# Altium schematic symbol library DCDC.SCHLIB: 142 symbols (part 3 of 6)
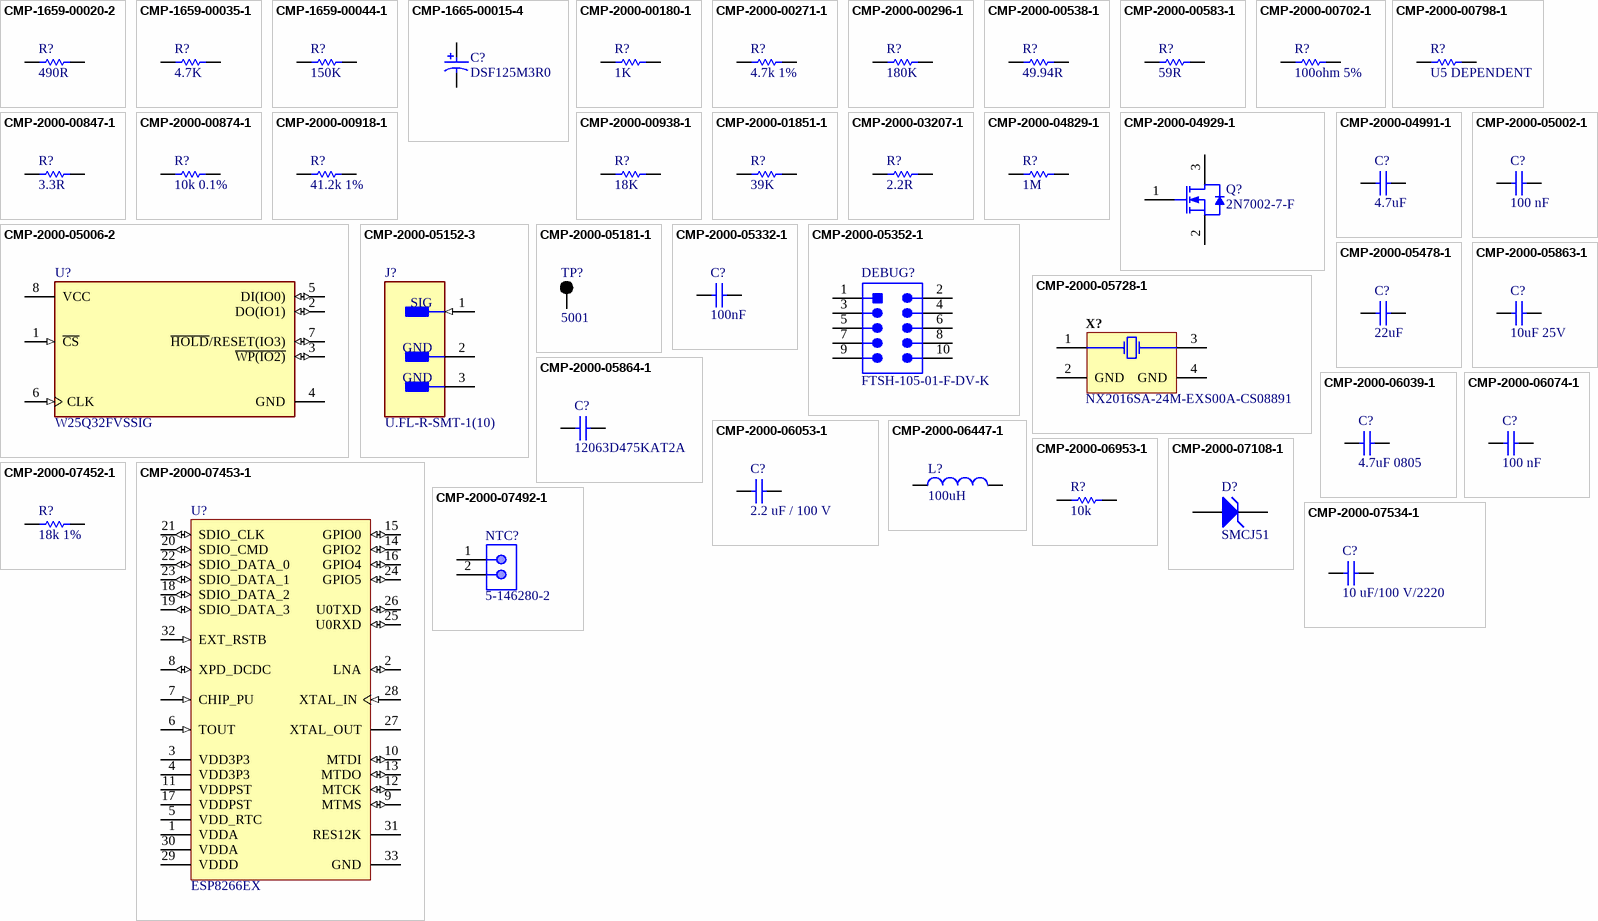
[diagram p5: symbols CMP-1659-00020-2 to CMP-2000-07534-1]

## CMP-2000-04991-1
designator C?, comment Capacitance: 4.7uF  (hidden comment: C1206C105K3RACTU)
Chip Capacitor, 1 uF, +/- 10%, 25 V, -55 to 125 degC, 1206 (3216 Metric), RoHS, Tape and Reel; Manufacturer: Kemet; Temperature Coefficient / Code: +/-15%; Dielectric: X7R; Voltage Rating DC: 25V; Capacitance - nF: 1000nF; Class: Class1; Case Length: 3.2mm; Type: SMDMLCCX7R6.3-250VDCCommericalGrade; Case Width: 1.6mm; Product: GeneralTypeMLCCs; Datasheet URL: https://ciiva.com/datasheet-click-18194173?src=ciiva&sig=6daff8c4; Operating Temperature Range: -55Cto+125C; Series: C1206C; RoHS: Details; Product Category: MultilayerCeramicCapacitorsMLCC-SMD/SMT; Manufacturer URL: http://www.kemet.com/; Minimum Operating Temperature: -55C; Dimensions: 1.6mmWx3.2mmLx1.6mmH; Termination Style: SMD/SMT; Brand: Kemet; Packaging: Reel; Package / Case: 1206(3216metric); Case Code - mm: 3216; Datasheet Version: Jul-14; Factory Pack Quantity: 2000; Package Description: 2-Pin Surface Mount Device, Body 3.2 x 1.6 mm; Tolerance: 10%; Package Reference: 1206; Case Height: 1.6mm; Case Code - in: 1206; Maximum Operating Temperature: +125C; Voltage Rating: 25V
footprint CAPC3216X180X50ML20T25 (Chip Capacitor, 2-Leads, Body 3.40x1.80mm, IPC Low Density)
footprint CAPC3216X180X50NL20T25 (Chip Capacitor, 2-Leads, Body 3.20x1.60mm, IPC Medium Density)
footprint CAPC3216X180X50LL20T25 (Chip Capacitor, 2-Leads, Body 3.20x1.60mm, IPC High Density)
pins: 1, 2

## CMP-2000-05002-1
designator C?, comment 100 nF
Ceramic Multilayer Capacitor, 100 nF, +/- 10%, 50 V, -55 to 155 degC, 0603 (1608 Metric), RoHS, Tape and Reel; Manufacturer: Yageo; Manufacturer Part Number: CC0603KRX7R7BB104; Online Catalog: CCSeries; Voltage - Rated: 16V; Product Training Modules: MultilayerCeramicCapacitors; Other Names: 311-1088-6; Featured Product: CommodityMultilayerCeramicCapacitors–CCSeries; Capacitance: 0.1µF; Temperature Coefficient: X7R; Insulation Resistance: 100GR; Height - Seated (Max): -; Operating Temperature: -55degC~125degC; Package / Case: 0603(1608Metric); Datasheet URL: https://datasheet.ciiva.com/11786/0900766b80d84f1d-11786077.pdf; Package Description: 2-Pin Surface Mount Device, Body 1.6 x 0.8 mm; Family: CeramicCapacitors; Packaging: Digi-Reel; Size / Dimension: 0.063"Lx0.031"W(1.60mmx0.80mm); Thickness (Max): 0.035"(0.90mm); Series: CC; Lead Spacing: -; Features: -; Tolerance: ±10%; Lead Style: -; Ratings: -; Manufacturer URL: http://www.yageo.com/; Package Reference: 603; Standard Package: 1; Category: Capacitors; Mounting Type: SurfaceMount,MLCC; Applications: GeneralPurpose; Datasheet Version: Rev. 2, 05/2009; Supplier 1: Digi-Key; Supplier Part Number 1: 311-1088-1-ND; Stock 1: 17413267; Pricing 1: 1=0,10000, 10=0,04800, 100=0,02130, 500=0,01522, 1000=0,01196 (USD); RoHS: Yes; Mount: Surface Mount; Case/Package: 0603; Number of Pins: 2; Case Code (Metric): 1608; Case Code (Imperial): 0603; Material: Ceramic; Min Operating Temperature: -55°C; Max Operating Temperature: 125°C; Voltage Rating: 16V; Package Quantity: 1; Dielectric: X7R; Termination: SMD/SMT; Voltage Rating (DC): 16V; Voltage: 16V; Composition: Ceramic; Length: 1.6mm; Height: 0.8mm; Width: 0.031inch; Thickness: 0.035inch; Depth: 0.8mm; Radiation Hardening: No; REACH SVHC: No SVHC; Lead Free: Lead Free; Halogen Free: Halogen Free; ComponentLink1URL: https://datasheet.ciiva.com/11786/0900766b80d84f1d-11786077.pdf?src-supplier=RSComponents; ComponentLink1Description: https://datasheet.ciiva.com/11786/0900766b80d84f1d-11786077.pdf?src-supplier=RSComponents; ComponentLink2URL: https://datasheet.ciiva.com/8033/1734573-8033797.pdf?src-supplier=Element14; ComponentLink2Description: https://datasheet.ciiva.com/8033/1734573-8033797.pdf?src-supplier=Element14; ComponentLink3URL: https://datasheet.ciiva.com/144/mlccorderingcode-144182.pdf?src-supplier=Digi-Key; ComponentLink3Description: https://datasheet.ciiva.com/144/mlccorderingcode-144182.pdf?src-supplier=Digi-Key; ComponentLink4URL: https://datasheet.ciiva.com/16625/upy-gphc-x7r-6-3v-to-50v-8-16625526.pdf?src-supplier=Avnet+Europe; ComponentLink4Description: https://datasheet.ciiva.com/16625/upy-gphc-x7r-6-3v-to-50v-8-16625526.pdf?src-supplier=Avnet+Europe; ComponentLink5URL: https://datasheet.ciiva.com/144/mlccorderingcode-144183.pdf?src-supplier=Digi-Key; ComponentLink5Description: https://datasheet.ciiva.com/144/mlccorderingcode-144183.pdf?src-supplier=Digi-Key; ComponentLink6URL: https://datasheet.ciiva.com/8033/70765-8033799.pdf?src-supplier=Element14; ComponentLink6Description: https://datasheet.ciiva.com/8033/70765-8033799.pdf?src-supplier=Element14; ComponentLink7URL: https://datasheet.ciiva.com/144/mlccorderingcode-144184.pdf?src-supplier=Digi-Key; ComponentLink7Description: https://datasheet.ciiva.com/144/mlccorderingcode-144184.pdf?src-supplier=Digi-Key; ComponentLink8URL: https://datasheet.ciiva.com/28450/1489800-28450552.pdf?src-supplier=Element14; ComponentLink8Description: https://datasheet.ciiva.com/28450/1489800-28450552.pdf?src-supplier=Element14; ComponentLink9URL: https://datasheet.ciiva.com/13395/upy-gphc-x7r-6-3v-to-50v-8-13395674.pdf?src-supplier=Mouser; ComponentLink9Description: https://datasheet.ciiva.com/13395/upy-gphc-x7r-6-3v-to-50v-8-13395674.pdf?src-supplier=Mouser; ComponentLink10URL: https://datasheet.ciiva.com/15165/getdatasheetpartid-63554-15165387.pdf?src-supplier=Verical; ComponentLink10Description: https://datasheet.ciiva.com/15165/getdatasheetpartid-63554-15165387.pdf?src-supplier=Verical; ComponentLink11URL: https://datasheet.ciiva.com/46430/1734573-46430156.pdf?src-supplier=Element14; ComponentLink11Description: https://datasheet.ciiva.com/46430/1734573-46430156.pdf?src-supplier=Element14; ComponentLink12URL: https://datasheet.ciiva.com/7978/1489800-7978141.pdf?src-supplier=Element14; ComponentLink12Description: https://datasheet.ciiva.com/7978/1489800-7978141.pdf?src-supplier=Element14; ComponentLink13URL: https://datasheet.ciiva.com/11464/upy-gphc-x7r-6-3v-to-50v-8-11464735.pdf?src-supplier=Avnet; ComponentLink13Description: https://datasheet.ciiva.com/11464/upy-gphc-x7r-6-3v-to-50v-8-11464735.pdf?src-supplier=Avnet
footprint CAPC1608X90X40ML10T20 (Chip Capacitor, 2-Leads, Body 1.7x0.9mm, IPC Low Density)
footprint CAPC1608X90X40NL10T20 (Chip Capacitor, 2-Leads, Body 1.60x0.80mm, IPC Medium Density)
footprint CAPC1608X90X40LL10T20 (Chip Capacitor, 2-Leads, Body 1.60x0.80mm, IPC High Density)
pins: 1, 2

## CMP-2000-05006-2
designator U?, comment W25Q32FVSSIG
IC FLASH 32M SPI 104MHZ 8SOIC; Manufacturer: Winbond; Obsolete Part: true; Access Time: 7ns; Nominal Supply Current: 8-20mA; Memory Size: 32Mbits; Max Supply Voltage: 3.6V; Min Supply Voltage: 2.7V; Standoff Height: 0.05mm; Interface: SPI,Other; Package: SS; Memory Type: FLASH; Ipc Land Pattern Name: SOIC127P790X195-8; Temperature Range High: +85°C; Temperature: -40°C to +85°C; Octopart: https://octopart.com/w25q32fvssig-winbond-23896462; Manufacturer Part Number: W25Q32FVSSIG; Ambient Temperature Range Low: -40°C; Lead Free: Yes; Height: 2.16mm; Automotive: No; Device Class L2: Memory; Digikey Description: IC FLASH 32M SPI 104MHZ 8SOIC; RoHS: TRUE; Frequency: 104MHz; Ambient Temperature Range High: +85°C; ComponentLink2Description: Datasheet; Category: IC; Device Class L1: Integrated Circuits (ICs); Device Class L3: Flash; Temperature Range Low: -40°C; Footprint Url: http://www.winbond.com/resource-files/an0000009%20spiflash%20pcb%20layout%20guideline%20v2.0%2009252017.pdf?__locale=en; ComponentLink2URL: https://www.winbond.com/resource-files/w25q32fv%20revj%2006032016.pdf
footprint FP-SS-MFG
footprint FP-SS-IPC_C
footprint FP-SS-IPC_B
footprint FP-SS-IPC_A
pins: 1 ~{CS} (in), 2 DO(IO1) (io), 3 ~{WP(IO2)} (io), 4 GND (power), 5 DI(IO0) (io), 6 CLK (in), 7 ~{HOLD}/RESET(IO3) (io), 8 VCC (power)

## CMP-2000-05152-3
designator J?, comment U.FL-R-SMT-1(10)
CONN U.FL RCPT STR 50 OHM SMD; Max Frequency: 6GHz; Connector Type: Coaxial; Body Plating: Silver; Body Material: Bronze; Impedance: 50R; Dielectric Material: Polymer; Insulation Resistance: 500MR; Gender: Male; Packaging: Cut Tape; Length: 3mm; Package Quantity: 2500; Termination: Solder; Lead Free: Lead Free; Series: U.FL; Min Operating Temperature: -40°C; Fastening Type: Snap; Contact Material: Brass; Orientation: Straight; Wire/Cable Type: Coaxial; Frequency: 6GHz; Contact Plating: Gold; Depth: 3.1mm; Weight: 0.001764oz; Max Operating Temperature: 90°C; Radiation Hardening: No; REACH SVHC: No SVHC; Mount: Surface Mount; Housing Color: Beige
footprint FP-U_FL-R-SMT-1_10-MFG
pins: 1 SIG (in), 2 GND (power), 3 GND (power)

## CMP-2000-05181-1
designator TP?, comment 5001
Test Point, Black, 1-Pin THD, RoHS, Bulk; Manufacturer: Keystone; Other Names: 5001K; Catalog Drawings: 5000Series; Alternate Color: 5004K-ND / -TESTPOINTPCMINI.040"DYELLOW / 5003K-ND / -TESTPOINTPCMINI.040"DORANGE / 5002K-ND / -TESTPOINTPCMINI.040"DWHITE / 5000K-ND / -TESTPOINTPCMINI.040"DRED; Kits: DKTGRS232C-KIT-ND / -TTLCONVERTER; Online Catalog: ColorCodedTestPoints; Datasheet URL: https://ciiva.com/datasheet-click-2917627?src=ciiva&sig=bd195616; Mounting Type: 0.040"(1.02mm)HoleDiameter; Family: TestPoints; RoHS Information: RoHSComplianceStatement; Datasheet Version: Rev. G, 12/2008; Color: Black; Category: TestandMeasurement; Standard Package: 100; Manufacturer URL: http://www.keyelco.com/; Material: Base,Nylon46,UL94V-0; Type: PCTestPoint,Miniature; Terminal: 0.010"x0.020"(0.25mmx0.51mm)PhosphorBronzeWire,SilverPlated; Series: THM; Packaging: Bulk
footprint KSTN-5001 (Test Point, Through Hole, Dia 2.54mm)
pins: 1

## CMP-2000-05332-1
designator C?, comment 100nF
Cap Ceramic 0.1uF 50VDC X7R 10% SMD 0603 Paper T/R; Manufacturer: Samsung Electro-Mechanics; Manufacturer Part Number: CL10B104KB8NNNC; Capacitance: 0.1µF; Rated Voltage: 50V; Case Size/Dimension: 0603; Datasheet URL: https://datasheet.ciiva.com/29198/456651-da-01-en-vs-kondensator-0605-29198839.pdf; Manufacturer URL: http://www.samsungsem.com/global/index.jsp; Dielectric: X7R; Tolerance (%): ±10%; Datasheet Version: Nov-10; Supplier 1: Digi-Key; Supplier Part Number 1: 1276-1000-1-ND; RoHS: Yes; Category: Ceramic Capacitors; Stock 1: 13409690; Pricing 1: 1=0.10000, 10=0.03000, 50=0.01620, 100=0.01330, 500=0.00950, 1000=0.00746 (USD); Mount: Surface Mount; Case/Package: 0603; Case Code (Metric): 1608; Case Code (Imperial): 0603; Contact Plating: Tin; Material: Ceramic; Min Operating Temperature: -55°C; Max Operating Temperature: 125°C; Voltage Rating: 50V; Package Quantity: 1; Packaging: Tape and Reel; Tolerance: 10%; Voltage Rating (DC): 50V; Voltage: 50V; Series: CL; Construction: Flat; Length: 1.6mm; Width: 0.031inch; Height: 0.8mm; Depth: 0.8mm; Thickness: 0.035inch; Radiation Hardening: No; Lead Free: Lead Free; RoHS Compliant: Yes; ComponentLink1URL: https://datasheet.ciiva.com/25803/cl10b104kb8nnnc-25803393.pdf?src-supplier=Digi-Key; ComponentLink1Description: https://datasheet.ciiva.com/25803/cl10b104kb8nnnc-25803393.pdf?src-supplier=Digi-Key; ComponentLink2URL: https://datasheet.ciiva.com/26838/getdatasheetpartid-89097-26838411.pdf?src-supplier=Verical; ComponentLink2Description: https://datasheet.ciiva.com/26838/getdatasheetpartid-89097-26838411.pdf?src-supplier=Verical; ComponentLink3URL: https://datasheet.ciiva.com/29198/456651-da-01-en-vs-kondensator-0605-29198839.pdf?src-supplier=Conrad; ComponentLink3Description: https://datasheet.ciiva.com/29198/456651-da-01-en-vs-kondensator-0605-29198839.pdf?src-supplier=Conrad
footprint SAMS-C0603-2_M (Chip Capacitor, 2-Leads, Body 1.70x0.90mm, IPC Low Density)
footprint SAMS-C0603-2_N (Chip Capacitor, 2-Leads, Body 1.70x0.90mm, IPC Medium Density)
footprint SAMS-C0603-2_L (Chip Capacitor, 2-Leads, Body 1.70x0.90mm, IPC High Density)
pins: 1, 2

## CMP-2000-05352-1
designator DEBUG?, comment FTSH-105-01-F-DV-K
Male Header, Pitch 1.27 mm, 2 x 5 Position, Height 6.12 mm, RoHS, Tube; Manufacturer: Samtec; Number of Positions: 10; Connector Type: Header,Shrouded; Number of Positions Loaded: All; Row Spacing: 0.050"(1.27mm); Fastening Type: -; Package Reference: FTSH-105-01-L-DV-K; Termination: Solder; Package URL: http://suddendocs.samtec.com/prints/ftsh-1xx-xx-xxx-dv-xxx-footprint.pdf; Number of Rows: 2; Contact Finish Thickness: 3µin(0.08µm); Contact Type: MalePin; Manufacturer URL: http://www.samtec.com/; Contact Mating Length: 0.120"(3.05mm); Pitch: 0.050"(1.27mm); Series: FTSH; Features: -; Contact Finish: Gold; Color: Black; Family: RectangularConnectors-Headers,MalePins; Datasheet URL: http://suddendocs.samtec.com/prints/ftsh-1xx-xx-xxx-dv-xxx-mkt.pdf; Package Description: Male Header, Pitch 1.27 mm, 2 x 5 Position, Height 5.97 mm, Tail Length 4.32 mm; Mounting Type: SurfaceMount; Datasheet Version: Rev. ET, 10/1995; Category: Connectors,Interconnects; Packaging: Tube
footprint SMTC-FTSH-105-01-L-DV-K_V (CONN, 10-Leads, Body 6.35x3.43mm, Pitch 1.27mm)
pins: 1, 2, 3, 4, 5, 6, 7, 8, 9, 10

## CMP-2000-05478-1
designator C?, comment 22uF
Ceramic Capacitor, 25 V, 22 uF, +/-10%, -55 to 85 degC, 2-Pin SMD (1210), RoHS, Tape and Reel; Temperature Coefficient / Code: +/-15%; Case Height: 2.79mm; Brand: AVX; Case Width: 2.5mm; Tolerance: 10%; Voltage Rating: 25V; Dielectric: X5R; Case Length: 3.2mm; Type: StandardX5RMLCCs; Case Code - in: 1210; Packaging: Reel; Minimum Operating Temperature: -55C; Package Reference: 1210; Product Category: MultilayerCeramicCapacitorsMLCC-SMD/SMT; Package / Case: 1210(3225metric); Dimensions: 2.5mmWx3.2mmLx2.79mmH; Capacitance: 22uF; RoHS: Details; Manufacturer: AVX; Case Code - mm: 3225; Maximum Operating Temperature: +85C; Operating Temperature Range: -55Cto+85C; Mounting Technology: SurfaceMount; Product: GeneralTypeMLCCs; Manufacturer URL: http://www.avx.com/; Termination Style: SMD/SMT; Package Description: 2-Pin Surface Mount Device, Body 3.2 x 2.5 mm; Datasheet URL: http://datasheets.avx.com/cx5r.pdf; Datasheet Version: 05/2016; Voltage Rating DC: 25V; Factory Pack Quantity: 1000
footprint CAPC3225X279X50LL20T25 (Chip Capacitor, 2-Leads, Body 3.40x2.70mm, IPC High Density)
footprint CAPC3225X279X50ML20T25 (Chip Capacitor, 2-Leads, Body 3.40x2.70mm, IPC Low Density)
footprint CAPC3225X279X50NL20T25 (Chip Capacitor, 2-Leads, Body 3.40x2.70mm, IPC Medium Density)
pins: 1, 2

## CMP-2000-05728-1
designator X?, comment NX2016SA-24M-EXS00A-CS08891
Ceramics Ultra Miniature Quartz Crystal, 20 MHz, +/- 20 ppm, -40 to 85 degC, 4-Pin SMD, RoHS, Tape and Reel; Load Capacitance: 10pF; Frequency Stability: 20PPM; ESR: 120Ohms; Frequency: 20MHz; Case Height: 0.59mm; Brand: ABRACON; Case Width: 1.6mm; Case Length: 2mm; Manufacturer URL: http://www.abracon.com/; RoHS: Details; Datasheet Version: 06/2015; Product Category: Crystals; Type: UltraMiniatureQuartzCrystal; Mounting Style: SMD/SMT; Termination Style: SMD/SMT; Packaging: Reel; Factory Pack Quantity: 3000; Mounting Technology: SurfaceMount; Operating Temperature Range: -40Cto+85C; Tolerance: 20PPM; Datasheet URL: http://www.abracon.com/Resonators/ABM11.pdf; Dimensions: 1.6mmWx2mmLx0.59mmH; Package Description: 4-Pin Surface Mount Device, Body 2 x 1.6 mm, Pitch 1.3 mm; Series: ABM11; Manufacturer: ABRACON; Package / Case: 2mmx1.6mmx0.59mm; Package Reference: ABM11
footprint ABRA-ABM11_V (SMD, 4-Leads, Body 2x1.6mm, Pitch 1.3mm)
pins: 1 X1, 2 GND (power), 3 X2, 4 GND (power)

## CMP-2000-05863-1
designator C?, comment 10uF 25V
Chip Capacitor, 10 uF, +/- 10%, 25 V, -55 to 85 degC, 1206 (3216 Metric), RoHS, Tape and Reel; Manufacturer: AVX; Dielectric: X5R; Capacitance: 10µF; Mounting Technology: SurfaceMount; Package Reference: 1206; Tolerance (%): ±10%; Manufacturer URL: http://www.avx.com/; Rated Voltage: 25V; Datasheet URL: http://datasheets.avx.com/cx5r.pdf; Package Description: 2-Pin Surface Mount Device, Body 3.2 x 1.6 mm; Datasheet Version: 05/2016; Case Size/Dimension: 1206
footprint CAPC3216X229X50LL20T25 (Chip Capacitor, 2-Leads, Body 3.40x1.80mm, IPC High Density)
footprint CAPC3216X229X50ML20T25 (Chip Capacitor, 2-Leads, Body 3.40x1.80mm, IPC Low Density)
footprint CAPC3216X229X50NL20T25 (Chip Capacitor, 2-Leads, Body 3.40x1.80mm, IPC Medium Density)
pins: 1, 2

## CMP-2000-05864-1
designator C?, comment 12063D475KAT2A
Chip Capacitor, 4.7 uF, +/- 10%, 25 V, -55 to 85 degC, 1206 (3216 Metric), RoHS, Tape and Reel; Manufacturer: AVX; Dielectric: X5R; Capacitance: 4.7µF; Rated Voltage: 25V; Mounting Technology: SurfaceMount; Datasheet Version: 05/2016; Case Size/Dimension: 1206; Manufacturer URL: http://www.avx.com/; Package Description: 2-Pin Surface Mount Device, Body 3.2 x 1.6 mm; Package Reference: 1206; Tolerance (%): ±10%; Datasheet URL: http://datasheets.avx.com/cx5r.pdf
footprint CAPC3216X229X50LL20T25 (Chip Capacitor, 2-Leads, Body 3.40x1.80mm, IPC High Density)
footprint CAPC3216X229X50ML20T25 (Chip Capacitor, 2-Leads, Body 3.40x1.80mm, IPC Low Density)
footprint CAPC3216X229X50NL20T25 (Chip Capacitor, 2-Leads, Body 3.40x1.80mm, IPC Medium Density)
pins: 1, 2

## CMP-2000-06039-1
designator C?, comment 4.7uF 0805
Chip Capacitor, 4.7 uF, +/- 10%, 25 V, -55 to 125 degC, 0805 (2012 Metric), RoHS, Tape and Reel; Manufacturer: TDK; PCN Part Number: MLCCPartNumberChange30/Nov/2012; Other Names: 445-5972-2C2012X7R1E475KC2012X7R1E475KT000N; Temperature Coefficient: X7R; Voltage - Rated: 25V; Product Training Modules: CSeriesGeneralApplicationsSEAT,CCV,andTVCLDesignToolsGuidetoReplacinganElectrolyticCapacitorwithanMLCC; Catalog Drawings: CSERIES_2012-0805_1.45; Online Catalog: CSeries,GeneralPurpose; Capacitance: 4.7µF; Package Description: 2-Pin Surface Mount Device, Body 2 x 1.25 mm; Manufacturer URL: http://www.tdk.com/; Features: -; Family: CeramicCapacitors; Applications: GeneralPurpose; Standard Package: 2,000; RoHS Information: RoHSCertificate-MLCC; Operating Temperature: -55°C~125°C; Lead Spacing: -; Lead Style: -; Datasheet Version: 01/2016; Datasheet URL: https://product.tdk.com/info/en/documents/chara_sheet/C2012X7R1E475K125AB.pdf; Series: C; Package Reference: 0805; Category: Capacitors; Ratings: -; Packaging: Tape&Reel(TR); Tolerance: ±10%; Height - Seated (Max): -; Size / Dimension: 0.079"Lx0.049"W(2.00mmx1.25mm); Package / Case: 0805(2012Metric); Mounting Technology: SurfaceMount; Mounting Type: SurfaceMount,MLCC; Thickness (Max): 0.057"(1.45mm)
footprint CAPC2013X145X20LL20 (Chip Capacitor, 2-Leads, Body 2.20x1.45mm, IPC High Density)
footprint CAPC2013X145X20ML20 (Chip Capacitor, 2-Leads, Body 2.20x1.45mm, IPC Low Density)
footprint CAPC2013X145X20NL20 (Chip Capacitor, 2-Leads, Body 2.20x1.45mm, IPC Medium Density)
pins: 1, 2

## CMP-2000-06053-1
designator C?, comment 2.2 uF / 100 V
Chip Capacitor, 2.2 uF, +/- 10%, -55 to 125 degC, 1210 (3225 Metric), RoHS, Tape and Reel; PCN Part Number: MLCCPartNumberChange30/Nov/2012; Manufacturer: TDK; Capacitance: 2.2µF; Catalog Drawings: CSERIES_1210_2.5; Product Training Modules: SEAT,CCV,andTVCLDesignToolsGuidetoReplacinganElectrolyticCapacitorwithanMLCC; Other Names: 445-4497-6; Voltage - Rated: 100V; Temperature Coefficient: X7R; Featured Product: C-SeriesMidVoltageMLCCs; Online Catalog: CSeries,MidVoltage; Ratings: -; Mounting Technology: SurfaceMount; Height - Seated (Max): -; Applications: GeneralPurpose; Packaging: Digi-Reel®; Mounting Type: SurfaceMount,MLCC; Lead Spacing: -; Thickness (Max): 0.098"(2.50mm); Package Reference: 1210 (3225 Metric); Manufacturer URL: http://www.tdk.com/; Size / Dimension: 0.126"Lx0.098"W(3.20mmx2.50mm); Operating Temperature: -55°C~125°C; Datasheet URL: https://datasheet.ciiva.com/15192/getdatasheetpartid-725361-15192330.pdf; RoHS Information: RoHSCertificate-MLCC; Lead Style: -; Standard Package: 1; Family: CeramicCapacitors; Datasheet Version: 10/2014; Category: Capacitors; Tolerance: ±10%; Features: -; Series: C; Package Description: 2-Pin Surface Mount Device, Body 3.2 x 2.5 mm; Package / Case: 1210(3225Metric)
footprint CAPC3225X250X20LL40 (Chip Capacitor, 2-Leads, Body 3.60x2.80mm, IPC High Density)
footprint CAPC3225X250X20ML40 (Chip Capacitor, 2-Leads, Body 3.60x2.80mm, IPC Low Density)
footprint CAPC3225X250X20NL40 (Chip Capacitor, 2-Leads, Body 3.60x2.80mm, IPC Medium Density)
pins: 1, 2

## CMP-2000-06074-1
designator C?, comment 100 nF
Chip Capacitor, 4.7 uF, +/- 10%, 10 V, -55 to 85 degC, 0603 (1608 Metric), RoHS, Tape and Reel; Manufacturer: Yageo; Manufacturer Part Number: CC0603KRX5R6BB475; Voltage - Rated: 10V; Temperature Coefficient: X5R; Online Catalog: CCSeries; Other Names: 311-1455-6; Capacitance: 4.7µF; EDA / CAD Models: DownloadfromAcceleratedDesigns; Thickness (Max): 0.035"(0.90mm); Mounting Type: SurfaceMount,MLCC; Datasheet Version: Rev. 21, 01/2016; Datasheet URL: http://www.yageo.com/documents/recent/UPY-GPHC_X5R_4V-to-50V-21.pdf; Size / Dimension: 0.063"Lx0.031"W(1.60mmx0.80mm); Standard Package: 1; Operating Temperature: -55°C~85°C; Tolerance: ±10%; Category: Capacitors; Manufacturer URL: http://www.yageo.com/; Package Reference: 0603; Family: CeramicCapacitors; Series: CC; Packaging: Digi-Reel®; Mounting Technology: SurfaceMount; Package Description: 2-Pin Surface Mount Device, Body 1.6 x 0.8 mm; Applications: GeneralPurpose; Package / Case: 0603(1608Metric); Supplier 1: Digi-Key; Supplier Part Number 1: 311-1455-1-ND; Stock 1: 536793; Pricing 1: 1=0,22000, 10=0,15000, 100=0,08500, 500=0,06000, 1000=0,05250 (USD); RoHS: Yes; Mount: Surface Mount; Case/Package: 0603; Case Code (Imperial): 0603; Case Code (Metric): 1608; Min Operating Temperature: -55°C; Max Operating Temperature: 85°C; Voltage Rating: 10V; Package Quantity: 1; Voltage Rating (DC): 10V; Termination: SMD/SMT; Dielectric: X5R; Composition: Ceramic; Length: 1.6mm; Height: 0.8mm; Width: 0.8mm; Depth: 0.8mm; Thickness: 0.035inch; Radiation Hardening: No; Lead Free: Lead Free; REACH SVHC: Unknown; Halogen Free: Halogen Free; ComponentLink1URL: https://datasheet.ciiva.com/8033/1525783-8033798.pdf?src-supplier=Element14; ComponentLink1Description: https://datasheet.ciiva.com/8033/1525783-8033798.pdf?src-supplier=Element14; ComponentLink2URL: https://datasheet.ciiva.com/179/mlccorderingcode-179704.pdf?src-supplier=Digi-Key; ComponentLink2Description: https://datasheet.ciiva.com/179/mlccorderingcode-179704.pdf?src-supplier=Digi-Key; ComponentLink3URL: https://datasheet.ciiva.com/179/mlccorderingcode-179705.pdf?src-supplier=Digi-Key; ComponentLink3Description: https://datasheet.ciiva.com/179/mlccorderingcode-179705.pdf?src-supplier=Digi-Key; ComponentLink4URL: https://datasheet.ciiva.com/179/mlccorderingcode-179706.pdf?src-supplier=Digi-Key; ComponentLink4Description: https://datasheet.ciiva.com/179/mlccorderingcode-179706.pdf?src-supplier=Digi-Key; ComponentLink5URL: https://datasheet.ciiva.com/8033/1525783-8033802.pdf?src-supplier=Element14; ComponentLink5Description: https://datasheet.ciiva.com/8033/1525783-8033802.pdf?src-supplier=Element14; ComponentLink6URL: https://datasheet.ciiva.com/11586/upy-gphc-x5r-4v-to-50v-12-11586314.pdf?src-supplier=Avnet; ComponentLink6Description: https://datasheet.ciiva.com/11586/upy-gphc-x5r-4v-to-50v-12-11586314.pdf?src-supplier=Avnet; ComponentLink7URL: https://datasheet.ciiva.com/16623/upy-gphc-x5r-4v-to-50v-12-16623983.pdf?src-supplier=Avnet+Europe; ComponentLink7Description: https://datasheet.ciiva.com/16623/upy-gphc-x5r-4v-to-50v-12-16623983.pdf?src-supplier=Avnet+Europe
footprint CAPC1608X90X40LL15T20 (Chip Capacitor, 2-Leads, Body 1.75x0.95mm, IPC High Density)
footprint CAPC1608X90X40ML15T20 (Chip Capacitor, 2-Leads, Body 1.75x0.95mm, IPC Low Density)
footprint CAPC1608X90X40NL15T20 (Chip Capacitor, 2-Leads, Body 1.75x0.95mm, IPC Medium Density)
pins: 1, 2

## CMP-2000-06447-1
designator L?, comment 100uH
Low Profile, High Current IHLP(R) Inductor, 100 uH, +/- 20%, 2.5 A, -55 to 125 degC, 2-Pin SMD, RoHS, Tape and Reel; Manufacturer: Vishay; Manufacturer Part Number: IHLP4040DZER101M11; Qualification: AEC-Q200; Test Frequency: 100kHz; Maximum DC Resistance: 270mOhms; Type: LowProfileHighCurrentIHLPInductor; Unit Weight: 0.070548oz; Shielding: Shielded; Brand: Vishay/Dale; Maximum DC Current: 2.25A; Core Material: Ferrite,Metal,Composite; Current Rating: 2.5A; Self Resonant Frequency: 1MHz; DC Resistance (DCR): 270mR; Current: 1.3A; Termination Style: SMD/SMT; Mounting Style: SMD/SMT; Tolerance: 20%; Factory Pack Quantity: 500; Product Category: FixedInductors; Mounting Technology: SurfaceMount; Manufacturer URL: http://www.vishay.com/; Operating Temperature Range: -55Cto+125C; Datasheet Version: 08/2015; Product: PowerInductors; Packaging: Reel; Length: 10.3mm; Inductance: 100uH; Package Description: 2-Pin Surface Mount Device, Body 10.3 x 10.3 mm; Height: 4mm; Width: 10.3mm; Series: IHLP-4040DZ-11; RoHS: True; Package Reference: IHLP4040DZER101M11; Tradename: IHLP; Datasheet URL: http://www.vishay.com/docs/34192/lp40dz11.pdf; Package / Case: 4040; Supplier 1: Avnet; Supplier Part Number 1: IHLP4040DZER101M11; Category: Fixed Inductors; Stock 1: 10000; Pricing 1: 500=0.59680, 1000=0.58220, 2000=0.57400, 3000=0.54128, 4000=0.52934, 5000=0.51740, 50000=0.48006 (USD); Mount: Surface Mount,Through Hole; Case/Package: 4040; Number of Pins: 2; Contact Plating: Tin; Weight: 0.070548oz; Min Operating Temperature: -55°C; Max Operating Temperature: 125°C; Saturation Current: 2.25A; Package Quantity: 1; Inductance Tolerance: 20%; Max DC Current: 2.25A; Termination: SMD/SMT; RMS Current (Irms): 2.5A; Height - Seated (Max): 0.157inch; Depth: 10.3mm; Radiation Hardening: No; REACH SVHC: Unknown; Military Standard: Not; Lead Free: Lead Free; ComponentLink1URL: https://datasheet.ciiva.com/11798/0900766b8102c938-11798178.pdf?src-supplier=RSComponents; ComponentLink1Description: https://datasheet.ciiva.com/11798/0900766b8102c938-11798178.pdf?src-supplier=RSComponents; ComponentLink2URL: https://datasheet.ciiva.com/8494/lp40dz11-8494200.pdf?src-supplier=Avnet; ComponentLink2Description: https://datasheet.ciiva.com/8494/lp40dz11-8494200.pdf?src-supplier=Avnet; ComponentLink3URL: https://datasheet.ciiva.com/8017/27487-8017341.pdf?src-supplier=Element14; ComponentLink3Description: https://datasheet.ciiva.com/8017/27487-8017341.pdf?src-supplier=Element14; ComponentLink4URL: https://datasheet.ciiva.com/8017/27487-8017342.pdf?src-supplier=Element14; ComponentLink4Description: https://datasheet.ciiva.com/8017/27487-8017342.pdf?src-supplier=Element14
footprint VISH-IHLP4040DZER101M11_V (Molded Inductor, 2-Leads, Body 10.30x10.30mm)
pins: 1, 2

## CMP-2000-06953-1
designator R?, comment 10k
General Purpose Chip Resistor, 1 MOhm, +/- 5%, -55 to 155 degC, 0603 (1608 Metric), RoHS, Tape and Reel; Manufacturer: Yageo; Manufacturer Part Number: RC0603JR-071ML; Power Rating: 100mW; Product Range: RCSeries; Temperature Coefficient: ±100ppm/°C; Resistor Element Type: ThickFilm; Resistance: 1Mohm; SVHC: ToBeAdvised; Voltage Rating: 50V; Resistor Case Style: 0603[1608Metric]; MSL: MSL1-Unlimited; Package Description: 2-Pin Surface Mount Device, Body 1.6 x 0.8 mm; Resistance Tolerance: ±5%; Datasheet Version: Rev. 7, 05/2017; Datasheet URL: http://www.yageo.com/documents/recent/PYu-RC_Group_51_RoHS_L_7.pdf; Manufacturer URL: http://www.yageo.com/; Package Reference: 0603; Automotive Qualification Standard: -; Packaging: CutTape; Mounting Technology: SurfaceMount; Supplier 1: Digi-Key; Supplier Part Number 1: 311-1.0MGRCT-ND; Stock 1: 3949362; Pricing 1: 1=0,10000, 10=0,01900, 100=0,00770, 1000=0,00347, 2500=0,00301 (USD); RoHS: Yes; Case/Package: 0603; Number of Pins: 2; Case Code (Imperial): 0603; Case Code (Metric): 1608; Contact Plating: Tin,Matte; Min Operating Temperature: -55°C; Max Operating Temperature: 155°C; Tolerance: 5%; Composition: Thick Film; Termination: SMD/SMT; Package Quantity: 5000; Military Standard: Not; Voltage Rating (DC): 50V; Length: 1.6mm; Height: 0.45mm; Width: 0.8mm; Depth: 0.8mm; Radiation Hardening: No; Lead Free: Lead Free; REACH SVHC: No SVHC; ComponentLink1URL: https://datasheet.ciiva.com/46395/443971-46395067.pdf?src-supplier=Element14; ComponentLink1Description: https://datasheet.ciiva.com/46395/443971-46395067.pdf?src-supplier=Element14; ComponentLink2URL: https://datasheet.ciiva.com/8883/pyu-rc0603-51-rohs-l-4-8883053.pdf?src-supplier=Avnet; ComponentLink2Description: https://datasheet.ciiva.com/8883/pyu-rc0603-51-rohs-l-4-8883053.pdf?src-supplier=Avnet; ComponentLink3URL: https://datasheet.ciiva.com/12555/rc0603-272842-12555342.pdf?src-supplier=Mouser; ComponentLink3Description: https://datasheet.ciiva.com/12555/rc0603-272842-12555342.pdf?src-supplier=Mouser; ComponentLink4URL: https://datasheet.ciiva.com/7746/443971-7746463.pdf?src-supplier=Element14; ComponentLink4Description: https://datasheet.ciiva.com/7746/443971-7746463.pdf?src-supplier=Element14
footprint RESC1608X55X25LL10T15 (Chip Resistor, 2-Leads, Body 1.60x0.80mm, IPC High Density)
footprint RESC1608X55X25ML10T15 (Chip Resistor, 2-Leads, Body 1.70x0.90mm, IPC Low Density)
footprint RESC1608X55X25NL10T15 (Chip Resistor, 2-Leads, Body 1.70x0.90mm, IPC Medium Density)
pins: 1, 2

## CMP-2000-07108-1
designator D?, comment SMCJ51
Transient Voltage Suppressor, 1500 W, 36 V, 2-Pin SMD, RoHS, Tape and Reel; Manufacturer: Fairchild Semiconductor; Breakdown Voltage-Max: 44.2V; Directional: Uni-Directional; Clamping Voltage-Max: 58.1V; Power Dissipation: 1500W; Breakdown Voltage-Min: 40V; Datasheet Version: Rev. 5.7, 09/2015; Mounting Technology: SurfaceMount; Package Description: 2-Pin Surface Mount Device, Body 6.875 x 5.9 mm; Package Reference: DO-214AB; Manufacturer URL: https://www.fairchildsemi.com/; Datasheet URL: https://www.fairchildsemi.com/datasheets/SM/SMCJ36A.pdf
footprint FAIR-DO-214AB-2_V (Molded Diode, 2-Leads, Body 7.15x6.25mm)
pins: 1 A, 2 K

## CMP-2000-07452-1
designator R?, comment 18k 1%
Chip Resistor, 10 KOhm, +/- 1%, 0.1 W, -55 to 155 degC, 0603 (1608 Metric), RoHS, Tape and Reel; Manufacturer: Panasonic; Voltage Rating: 75V; Case\/Package: 0603; Power Rating: 100mW; Resistance: 10KOhm; Temperature Coefficient: 100ppm\/degreesC; Number of Pins: 2; Package Reference: 603; Depth: 0.8mm; Mount: SurfaceMount; Package Description: 2-Pin Surface Mount Device, Body 1.6 x 0.85 mm; Datasheet Version: 02/2017; Length: 1.6mm; Lead Free: LeadFree; Height: 0.45mm; Number of Terminations: 2; Max Power Dissipation: 100mW; Min Operating Temperature: -55degC; Datasheet URL: https://industrial.panasonic.com/cdbs/www-data/pdf/RDA0000/AOA0000C304.pdf; Termination: SMD/SMT; Case Code (Metric): 1608; Case Code (Imperial): 0603; Tolerance: 1%; Max Operating Temperature: 155degC; RoHSCompliant: true; Voltage Rating (DC): 75V; Radiation Hardening: No; Packaging: TapeandReel; Composition: ThickFilm; Mounting Technology: SurfaceMount; Manufacturer URL: http://www.panasonic.com/; Width: 0.031inch; REACH SVHC: NoSVHC; Contact Plating: Tin; Military Standard: Not; Package Quantity: 1
footprint RESC1609X55X30LL15T15 (Chip Resistor, 2-Leads, Body 1.75x0.95mm, IPC High Density)
footprint RESC1609X55X30ML15T15 (Chip Resistor, 2-Leads, Body 1.75x0.95mm, IPC Low Density)
footprint RESC1609X55X30NL15T15 (Chip Resistor, 2-Leads, Body 1.75x0.95mm, IPC Medium Density)
pins: 1, 2

## CMP-2000-07453-1
designator U?, comment ESP8266EX
Low-Power, Highly-Integrated Wi-Fi Solution, 2.5 to 3.6 V, 80 mA, -40 to 125 degC, 32-Pin QFN; Manufacturer: Espressif Systems; Mounting Technology: SurfaceMount; Datasheet URL: http://espressif.com/sites/default/files/documentation/0a-esp8266ex_datasheet_en.pdf; Package Reference: QFN-32; Package Description: 32-Pin Quad Falt No-Lead, Body 5 x 5 mm, Pitch 0.5 mm; Manufacturer URL: http://espressif.com; Datasheet Version: Rev. 5.4, 04/2017
footprint ESFS-QFN-32_L (QFN, 32-Leads, Body 5.05x5.05mm, Pitch 0.50mm, Thermal Pad 3.70x3.70mm, IPC High Density)
footprint ESFS-QFN-32_M (QFN, 32-Leads, Body 5.05x5.05mm, Pitch 0.50mm, Thermal Pad 3.70x3.70mm, IPC Low Density)
footprint ESFS-QFN-32_N (QFN, 32-Leads, Body 5.05x5.05mm, Pitch 0.50mm, Thermal Pad 3.70x3.70mm, IPC Medium Density)
pins: 1 VDDA (power) "Analog Power 2.5V ~ 3.6V", 2 LNA (io) "RF antenna interface", 3 VDD3P3 (power) "Amplifier Power 2.5V ~ 3.6V", 4 VDD3P3 (power) "Amplifier Power 2.5V ~ 3.6V", 5 VDD_RTC (power) "NC (1.1V)", 6 TOUT (in) "ADC pin. It can be used to test the power-supply voltage of VDD3P3 (Pin3 and Pin4) and the input power voltage of TOUT (Pin 6). However, these two functions cannot be used simultaneously.", 7 CHIP_PU (in) "Chip Enable", 8 XPD_DCDC (io) "Deep-sleep wakeup (need to be connected to EXT_RSTB); GPIO16", 9 MTMS (io) "GPIO 14; HSPI_CLK", 10 MTDI (io) "GPIO 12; HSPI_MISO", 11 VDDPST (power) "Digital/IO Power Supply (1.8V ~ 3.3V)", 12 MTCK (io) "GPIO 13; HSPI_MOSI; UART0_CTS", 13 MTDO (io) "GPIO 15; HSPI_CS; UART0_RTS", 14 GPIO2 (io) "UART Tx during flash programming; GPIO2", 15 GPIO0 (io) "GPIO0; SPI_CS2", 16 GPIO4 (io) "GPIO 4", 17 VDDPST (power) "Digital/IO Power Supply (1.8V ~ 3.3V)", 18 SDIO_DATA_2 (io) "Connect to SD_D2 (Series R: 200ohm); SPIHD; HSPIHD; GPIO 9", 19 SDIO_DATA_3 (io) "Connect to SD_D3 (Series R: 200phm); SPIWP; HSPIWP; GPIO 10", 20 SDIO_CMD (io) "Connect to SD_CMD (Series R: 200ohm); SPI_CS0; GPIO 11", 21 SDIO_CLK (io) "Connect to SD_CLK (Series R: 200ohm); SPI_CLK; GPIO 6", 22 SDIO_DATA_0 (io) "Connect to SD_D0 (Series R: 200ohm); SPI_MSIO; GPIO 7", 23 SDIO_DATA_1 (io) "Connect to SD_D1 (Series R: 200ohm); SPI_MOSI; GPIO 8", 24 GPIO5 (io) "GPIO 5", 25 U0RXD (io) "UART Rx during flash programming; GPIO 3", 26 U0TXD (io) "UART Tx during flash progamming; GPIO 1; SPI_CS1", 27 XTAL_OUT "Connect to crystal oscillator output, can be used to provide BT clock input", 28 XTAL_IN (in) "Connect to crystal oscillator input", 29 VDDD (power) "Analog Power 2.5V ~ 3.6V", 30 VDDA (power) "Analog Power 2.5V ~ 3.6V", 31 RES12K "Serial connection with a 12 kohm resistor and connect to the ground", 32 EXT_RSTB (in) "External reset signal (Low voltage level: Active)", 33 GND (power)

## CMP-2000-07492-1
designator NTC?, comment 5-146280-2
Male Header, Pitch 2.54 mm, 1 x 2 Position, Height 8.21 mm, Tail Length 3.05 mm, -65 to 105 degC, RoHS, Bulk; Manufacturer: TE Connectivity; Mating Connector Lock: No(Without); Number of Positions: 2; Pitch: 2.54mm; PCB Mounting Orientation: Vertical; Keyed: No; Case\/Package: 100; Mating Post Length: 0.23inch; High Temperature Housing: Yes; Max Current Rating: 5A; PCB Thickness: 0.063inch; PCB Mount Retention: Without; Approvals: CSA; Current Rating: 3A; Radiation Hardening: No; Length: 4.67mm; Contact Mating Length: 0.23inch; Connector Type: Header; Number of Rows: 1; Termination Post Length: 0.12inch; Board Standoff: No(Without); Max Operating Temperature: 105degC; Contact Shape: Square; Selectively Loaded: No(Without); Gasket: No(Without); Number of Contacts: 2; Contact Gender: Male; Mating Alignment: No(Without); Manufacturer URL: http://www.te.com/; Datasheet URL: http://www.te.com/commerce/DocumentDelivery/DDEController?Action=showdoc&DocId=Customer+Drawing%7F146280%7FH1%7Fpdf%7FEnglish%7FENG_CD_146280_H1.pdf%7F5-146280-2; Mount: ThroughHole; Orientation: Straight; Packaging: Carton; Package Reference: 5-146280-2; Package Quantity: 500; Stabilizers: No(Without); Row Spacing: 2.54mm; Contact Material: CopperAlloy; Panel Mount Retention: No(Without); Datasheet Version: Rev. H1, 08/2016; Housing Colour: Black; Colour: Black; Package Description: Male Header, Pitch 2.54 mm, 1 x 2 Position, Height 8.21 mm, Tail Length 3.05 mm; Contact Plating: Matte; Housing Material: Polymer; Contact Protection: No(Without); Min Operating Temperature: -65degC; Mounting Technology: ThroughHole; Flammability Rating: UL94V-0; RoHSCompliant: true; Termination: ThroughHole; Depth: 2.34mm; High Speed Serial Data Connector: No
footprint TECO-5-146280-2_V (Connector, 2-Leads, Body 4.67x2.34mm, Pitch 2.54mm)
pins: 1, 2

## CMP-2000-07534-1
designator C?, comment 10 uF/100 V/2220
Chip Capacitor, 10 uF, +/- 20%, 100 V, -55 to 125 degC, 2220 (5750 Metric), RoHS, Tape and Reel; Manufacturer: AVX; Manufacturer Part Number: 22201C106MAT2A; Capacitance: 10uF; Voltage Rating: 100V; Dielectric: X7R; Datasheet URL: http://datasheets.avx.com/X7RDielectric.pdf; Package Reference: 2220; Package Description: 2-Pin Surface Mount Device, Body 5 x 5.7 mm; Datasheet Version: 03/2017; Manufacturer URL: http://www.avx.com/; Mounting Technology: SurfaceMount; Supplier 1: Digi-Key; Supplier Part Number 1: 478-9622-1-ND; Stock 1: 129916; Pricing 1: 1=2,26000, 10=1,82600, 100=1,39470 (USD); RoHS: Yes; Mount: Surface Mount; Case/Package: 2220; Case Code (Metric): 5750; Case Code (Imperial): 2220; Min Operating Temperature: -55°C; Max Operating Temperature: 125°C; Packaging: Tape and Reel; Tolerance: 20%; Voltage Rating (DC): 100V; Length: 0.224inch; Width: 0.197inch; Thickness: 0.11inch; ComponentLink1URL: http://catalogs.avx.com/SurfaceMount.pdf?src-supplier=Digi-Key; ComponentLink1Description: http://catalogs.avx.com/SurfaceMount.pdf?src-supplier=Digi-Key
footprint CAPC5750X279X64LL40T39 (Chip Capacitor, 2-Leads, Body 6.1x5.4mm, IPC High Density)
footprint CAPC5750X279X64ML40T39 (Chip Capacitor, 2-Leads, Body 6.1x5.4mm, IPC Low Density)
footprint CAPC5750X279X64NL40T39 (Chip Capacitor, 2-Leads, Body 6.1x5.4mm, IPC Medium Density)
pins: 1, 2

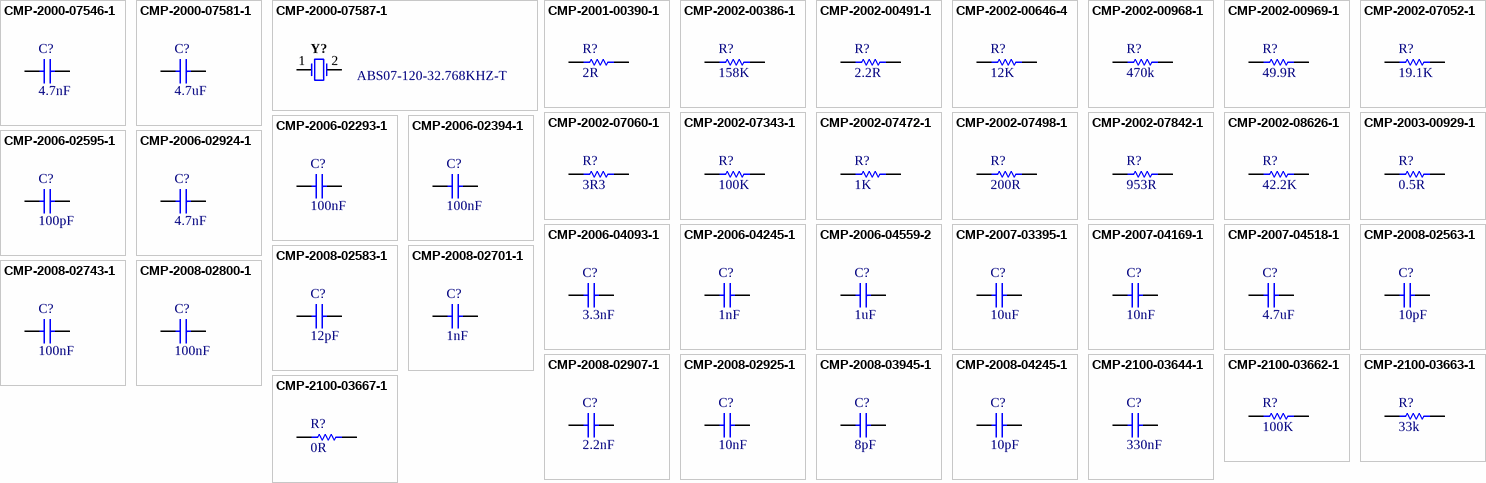
[diagram p2: symbols CMP-2000-07546-1 to CMP-2100-03667-1]

## CMP-2000-07546-1
designator C?, comment 4.7nF
Chip Capacitor, 0.1 uF, +/- 10%, 50 V, -55 to 125 degC, 0603 (1608 Metric), RoHS, Tape and Reel; Manufacturer: TDK; Capacitance: 100nF; Voltage: 50V; Dielectric: X7R; Package Reference: 603; Radiation Hardening: No; Composition: Ceramic; Datasheet URL: https://product.tdk.com/info/en/catalog/datasheets/mlcc_automotive_general_en.pdf; Mounting Technology: SurfaceMount; Datasheet Version: 12/2014; Width: 0.8mm; Length: 1.6mm; Tolerance: 10%; Case Code (Imperial): 0603; RoHSCompliant: True; Min Operating Temperature: -55degC; Package Description: 2-Pin Surface Mount Device, Body 1.6 x 0.8 mm; Packaging: TapeandReel; Package Quantity: 1; Voltage Rating: 50V; Mount: SurfaceMount; Lead Free: LeadFree; Depth: 0.8mm; Termination: SMD/SMT; Case Code (Metric): 1608; Thickness: 0.035inch; Height: 0.8mm; Weight: 7.1E-05oz; Voltage Rating (DC): 50V; REACH SVHC: NoSVHC; Manufacturer URL: http://www.tdk.com/; Case/Package: 0603; Max Operating Temperature: 125degC
footprint CAPC1608X90X20LL10 (Chip Capacitor, 2-Leads, Body 1.70x0.90mm, IPC High Density)
footprint CAPC1608X90X20ML10 (Chip Capacitor, 2-Leads, Body 1.70x0.90mm, IPC Low Density)
footprint CAPC1608X90X20NL10 (Chip Capacitor, 2-Leads, Body 1.70x0.90mm, IPC Medium Density)
pins: 1, 2

## CMP-2000-07581-1
designator C?, comment 4.7uF
Chip Capacitor, 4.7 uF, +/- 10%, 50 V, -55 to 125 degC, 1206 (3216 Metric), RoHS, Tape and Reel; Manufacturer: AVX; Manufacturer Part Number: 12065C475KAT2A; Voltage Rating: 50V; Case\/Package: 1206; Dissipation Factor: 2.5%; Dielectric: X7R; Case Code (Imperial): 1206; Tolerance: 10%; Radiation Hardening: No; Mount: SurfaceMount; Capacitance: 4.7uF; Width: 1.6mm; Manufacturer URL: http://www.avx.com/; RoHSCompliant: True; Thickness: 0.07inch; Depth: 1.6mm; Min Operating Temperature: -55degC; Package Reference: 1206; Voltage Rating (DC): 50V; Package Description: 2-Pin Surface Mount Device, Body 3.2 x 1.6 mm; Datasheet URL: http://datasheets.avx.com/X7RDielectric.pdf; Case Code (Metric): 3216; REACH SVHC: NoSVHC; Packaging: TapeandReel; Mounting Technology: SurfaceMount; Termination: SMD/SMT; Package Quantity: 1; Datasheet Version: 03/2017; Max Operating Temperature: 125degC; Contact Plating: Matte; Length: 3.2mm; Lead Free: LeadFree; Supplier 1: Digi-Key; Supplier Part Number 1: 478-6653-1-ND; RoHS: Yes; Category: Ceramic Capacitors; Stock 1: 241833; Pricing 1: 1=0.51000, 10=0.35400, 100=0.21250, 500=0.15940, 1000=0.13460 (USD); Case/Package: 1206; ComponentLink1URL: https://datasheet.ciiva.com/5410/cx7r-218113-5410549.pdf?src-supplier=Mouser; ComponentLink1Description: https://datasheet.ciiva.com/5410/cx7r-218113-5410549.pdf?src-supplier=Mouser; ComponentLink2URL: https://datasheet.ciiva.com/16387/flexiterm-16387141.pdf?src-supplier=Future+Electronics; ComponentLink2Description: https://datasheet.ciiva.com/16387/flexiterm-16387141.pdf?src-supplier=Future+Electronics; ComponentLink3URL: https://datasheet.ciiva.com/153/cx7r-153750.pdf?src-supplier=Digi-Key; ComponentLink3Description: https://datasheet.ciiva.com/153/cx7r-153750.pdf?src-supplier=Digi-Key; ComponentLink4URL: https://datasheet.ciiva.com/7833/cx7r-7833462.pdf?src-supplier=Element14; ComponentLink4Description: https://datasheet.ciiva.com/7833/cx7r-7833462.pdf?src-supplier=Element14; ComponentLink5URL: https://datasheet.ciiva.com/153/cx7r-153751.pdf?src-supplier=Digi-Key; ComponentLink5Description: https://datasheet.ciiva.com/153/cx7r-153751.pdf?src-supplier=Digi-Key; ComponentLink6URL: https://datasheet.ciiva.com/7833/cx7r-7833463.pdf?src-supplier=Element14; ComponentLink6Description: https://datasheet.ciiva.com/7833/cx7r-7833463.pdf?src-supplier=Element14; ComponentLink7URL: https://datasheet.ciiva.com/153/cx7r-153752.pdf?src-supplier=Digi-Key; ComponentLink7Description: https://datasheet.ciiva.com/153/cx7r-153752.pdf?src-supplier=Digi-Key
footprint CAPC3216X180X50LL20T25 (Chip Capacitor, 2-Leads, Body 3.20x1.60mm, IPC High Density)
footprint CAPC3216X180X50ML20T25 (Chip Capacitor, 2-Leads, Body 3.40x1.80mm, IPC Low Density)
footprint CAPC3216X180X50NL20T25 (Chip Capacitor, 2-Leads, Body 3.40x1.80mm, IPC Medium Density)
pins: 1, 2

## CMP-2000-07587-1
designator Y?, comment ABS07-120-32.768KHZ-T
Tuning Fork Crystal, 32.768 KHz, +/- 20 ppm, -40 to 85 degC, 2-Pin SMD, RoHS, Tape and Reel; Manufacturer: Abracon; Case\/Package: SMD/SMT; Series Resistance: 60KOhm; Frequency Tolerance: 20ppm; Load Capacitance: 6pF; ESR (Equivalent Series Resistance): 55KOhm; Max Operating Temperature: 85degC; Width: 0.061inch; Radiation Hardening: No; Lead Free: LeadFree; RoHSCompliant: True; Depth: 1.5mm; Datasheet URL: http://www.abracon.com/Resonators/ABS07-120-32.768kHz-T.pdf; Frequency: 32.768KHz; Termination: SMD/SMT; Manufacturer URL: http://www.abracon.com/; Package Quantity: 3000; Packaging: TapeandReel; Number of Pins: 2; Height: 0.035inch; Package Description: 2-Pin Surface Mount Device, Body 3.2 x 1.5 mm; Package Reference: ABS07; Mount: SurfaceMount; Tolerance: 20ppm; Mounting Technology: SurfaceMount; REACH SVHC: NoSVHC; Datasheet Version: 11/2014; Length: 3.2mm; Min Operating Temperature: -40degC
footprint ABRA-ABS07_A_V (SMD, 2-Leads, Body 3.2x1.5mm)
pins: 1, 2

## CMP-2001-00390-1
designator R?, comment 2R
ERJ-6GEYJ2R0V; Manufacturer: Panasonic; Part Number: ERJ-6GEYJ2R0V
footprint RESC2013X70X40NL20T20 (Chip Resistor, 2-Leads, Body 2.00x1.25mm, IPC Medium Density)
footprint RESC2013X70X40LL20T20 (Chip Resistor, 2-Leads, Body 2.00x1.25mm, IPC High Density)
footprint RESC2013X70X40ML20T20 (Chip Resistor, 2-Leads, Body 2.00x1.25mm, IPC Low Density)
pins: 1, 2
1 alternate drawing of the same symbol

## CMP-2002-00386-1
designator R?, comment 158K
RES SMD 158K OHM 1% 1/16W 0402; Manufacturer: Vishay Dale; Part Number: CRCW0402158KFKTD; Resistance: 158kR; Temperature Coefficient: 100ppm/°C; Power Rating: 63mW; Voltage Rating: 50V; Supplier 1: Avnet; Supplier Part Number 1: CRCW0402158KFKTD; Manufacturer Part Number: CRCW0402158KFKTD; RoHS: No; Category: Chip SMD Resistors; Stock 1: 10000; Pricing 1: 10000=0.02620, 20000=0.02556, 40000=0.02520, 60000=0.02448, 80000=0.02394, 100000=0.02340, 1000000=0.02286 (USD); Case/Package: 0402; Number of Pins: 2; Case Code (Metric): 1005; Case Code (Imperial): 0402; Contact Plating: Tin,Lead; Weight: 2.3E-05oz; Min Operating Temperature: -55°C; Max Operating Temperature: 155°C; Packaging: Tape and Reel; Tolerance: 1%; Resistor Type: Thick Film; Package Quantity: 10000; Number of Terminations: 2; Termination: SMD/SMT; Max Power Dissipation: 63mW; Series: CRCW; Voltage Rating (DC): 50V; Features: Automotive AEC-Q200; Resistance Tolerance: 1%; Length: 0.039inch; Width: 0.02inch; Height: 0.016inch; Radiation Hardening: No; RoHS Compliant: No; Lead Free: Contains Lead; REACH SVHC: Unknown; ComponentLink1URL: https://datasheet.ciiva.com/8967/dcrcw-8967692.pdf?src-supplier=Avnet; ComponentLink1Description: https://datasheet.ciiva.com/8967/dcrcw-8967692.pdf?src-supplier=Avnet; ComponentLink2URL: https://datasheet.ciiva.com/2563/dcrcw-2563087.pdf?src-supplier=Digi-Key; ComponentLink2Description: https://datasheet.ciiva.com/2563/dcrcw-2563087.pdf?src-supplier=Digi-Key
footprint RESC1005X40X25NL05T05 (Chip Resistor, 2-Leads, Body 1.00x0.50mm, IPC Medium Density)
footprint RESC1005X40X25LL05T05 (Chip Resistor, 2-Leads, Body 1.00x0.50mm, IPC High Density)
footprint RESC1005X40X25ML05T05 (Chip Resistor, 2-Leads, Body 1.00x0.50mm, IPC Low Density)
pins: 1, 2
1 alternate drawing of the same symbol

## CMP-2002-00491-1
designator R?, comment 2.2R
RES SMD 2.2M OHM 5% 1/10W 0402; Part Number: ERJ-2GEJ225X; Manufacturer: Panasonic; Resistance: 2.2MR; Temperature Coefficient: 150ppm/°C; Max Power Dissipation: 100mW; Voltage Rating: 50V; Supplier 1: Digi-Key; Supplier Part Number 1: P2.2MJCT-ND; Manufacturer Part Number: ERJ-2GEJ225X; RoHS: Yes; Category: Chip SMD Resistors; Stock 1: 12210; Pricing 1: 1=0.10000, 10=0.02200, 100=0.00880, 1000=0.00396, 2500=0.00344, 5000=0.00284 (USD); Mount: Surface Mount; Case/Package: 0402; Case Code (Metric): 1005; Case Code (Imperial): 0402; Contact Plating: Tin; Min Operating Temperature: -55°C; Max Operating Temperature: 155°C; Packaging: Tape and Reel; Tolerance: 5%; Termination: SMD/SMT; Series: ERJ; Resistor Type: Thick Film; Power Rating: 100mW; Package Quantity: 10000; Number of Terminations: 2; Features: Automotive AEC-Q200; Construction: Rectangular; Voltage Rating (DC): 50V; Technology: THICK FILM; Resistance Tolerance: 5%; Length: 1mm; Width: 0.02inch; Height: 0.35mm; Depth: 0.5mm; Radiation Hardening: No; RoHS Compliant: Yes; Military Standard: Not; Lead Free: Contains Lead; REACH SVHC: No SVHC; ComponentLink1URL: https://datasheet.ciiva.com/11821/0900766b80f806dd-11821267.pdf?src-supplier=RSComponents; ComponentLink1Description: https://datasheet.ciiva.com/11821/0900766b80f806dd-11821267.pdf?src-supplier=RSComponents; ComponentLink2URL: https://datasheet.ciiva.com/16781/70260739-16781238.pdf?src-supplier=Allied+Electronics; ComponentLink2Description: https://datasheet.ciiva.com/16781/70260739-16781238.pdf?src-supplier=Allied+Electronics; ComponentLink3URL: https://datasheet.ciiva.com/24023/aoa0000ce1-37422-24023607.pdf?src-supplier=Mouser; ComponentLink3Description: https://datasheet.ciiva.com/24023/aoa0000ce1-37422-24023607.pdf?src-supplier=Mouser; ComponentLink4URL: https://datasheet.ciiva.com/43460/1500035-43460408.pdf?src-supplier=Farnell; ComponentLink4Description: https://datasheet.ciiva.com/43460/1500035-43460408.pdf?src-supplier=Farnell; ComponentLink5URL: https://datasheet.ciiva.com/46378/1500035-46378122.pdf?src-supplier=Element14; ComponentLink5Description: https://datasheet.ciiva.com/46378/1500035-46378122.pdf?src-supplier=Element14; ComponentLink6URL: https://datasheet.ciiva.com/16784/70260739-16784747.pdf?src-supplier=Allied+Electronics; ComponentLink6Description: https://datasheet.ciiva.com/16784/70260739-16784747.pdf?src-supplier=Allied+Electronics; ComponentLink7URL: https://datasheet.ciiva.com/30256/4aoa0000ce1-30256685.pdf?src-supplier=Onlinecomponents.com; ComponentLink7Description: https://datasheet.ciiva.com/30256/4aoa0000ce1-30256685.pdf?src-supplier=Onlinecomponents.com
footprint RESC1005X40X25NL05T05 (Chip Resistor, 2-Leads, Body 1.00x0.50mm, IPC Medium Density)
footprint RESC1005X40X25LL05T05 (Chip Resistor, 2-Leads, Body 1.00x0.50mm, IPC High Density)
footprint RESC1005X40X25ML05T05 (Chip Resistor, 2-Leads, Body 1.00x0.50mm, IPC Low Density)
pins: 1, 2
1 alternate drawing of the same symbol